# EAGLE library part SST39WF400B-70-4C-B3KE (library Memory)
IC FLASH 4M PARALLEL 48TFBGA Manufacturer's datasheet <http://ww1.microchip.com/downloads/en/DeviceDoc/25034A.pdf>
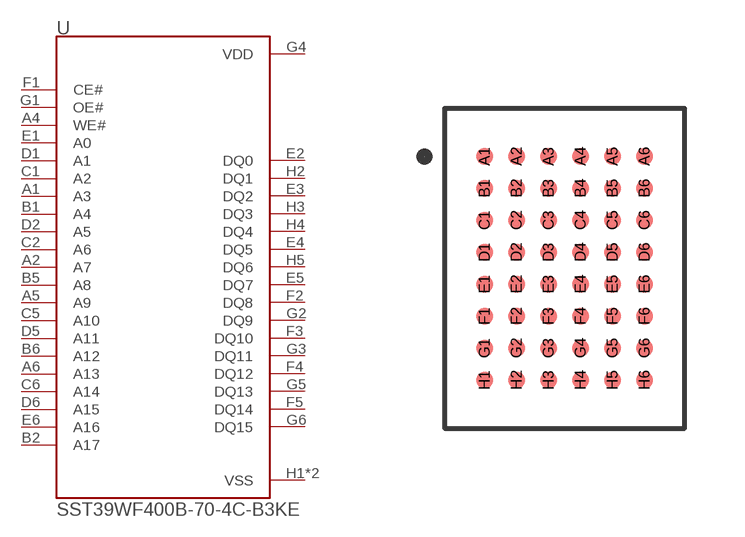
[diagram p17: symbol with the pads of 48-TFBGA; footprint 48-TFBGA]

Designator prefix U

## SST39WF400B-70-4C-B3KE (CREATED_BY: PCBLayout.com; DIGIKEY_PART_NUMBER: SST39WF400B-70-4C-B3KE-ND; MANUFACTURER: Microchip Technology; MPN: SST39WF400B-70-4C-B3KE; PACKAGE: 48-TFBGA)  [48-TFBGA]
A1  A3  in
A2  A7  in
A4  WE#  in
A5  A9  in
A6  A13  in
B1  A4  in
B2  A17  in
B5  A8  in
B6  A12  in
C1  A2  in
C2  A6  in
C5  A10  in
C6  A14  in
D1  A1  in
D2  A5  in
D5  A11  in
D6  A15  in
E1  A0  in
E2  DQ0
E3  DQ2
E4  DQ5
E5  DQ7
E6  A16  in
F1  CE#  in
F2  DQ8
F3  DQ10
F4  DQ12
F5  DQ14
G1  OE#  in
G2  DQ9
G3  DQ11
G4  VDD  pwr
G5  DQ13
G6  DQ15
H1  VSS  pwr
H2  DQ1
H3  DQ3
H4  DQ4
H5  DQ6
H6  VSS  pwr

## Footprint 48-TFBGA (pad centres in mm)
smd 0.41 x 0.41: A1 -2,2.8; A2 -1.2,2.8; A3 -0.4,2.8; A4 0.4,2.8; A5 1.2,2.8; A6 2,2.8; B1 -2,2; B2 -1.2,2; B3 -0.4,2; B4 0.4,2; B5 1.2,2; B6 2,2; C1 -2,1.2; C2 -1.2,1.2; C3 -0.4,1.2; C4 0.4,1.2; C5 1.2,1.2; C6 2,1.2; D1 -2,0.4; D2 -1.2,0.4; D3 -0.4,0.4; D4 0.4,0.4; D5 1.2,0.4; D6 2,0.4; E1 -2,-0.4; E2 -1.2,-0.4; E3 -0.4,-0.4; E4 0.4,-0.4; E5 1.2,-0.4; E6 2,-0.4; F1 -2,-1.2; F2 -1.2,-1.2; F3 -0.4,-1.2; F4 0.4,-1.2; F5 1.2,-1.2; F6 2,-1.2; G1 -2,-2; G2 -1.2,-2; G3 -0.4,-2; G4 0.4,-2; G5 1.2,-2; G6 2,-2; H1 -2,-2.8; H2 -1.2,-2.8; H3 -0.4,-2.8; H4 0.4,-2.8; H5 1.2,-2.8; H6 2,-2.8